# Altium integrated library NL27WZ08USG.IntLib: 1 symbol
Pins are listed as number, name and electrical type; pins without a type are passive.

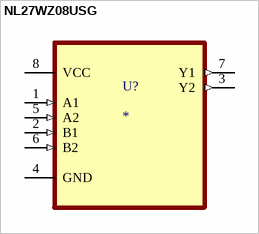
[diagram p0: symbol NL27WZ08USG]

## NL27WZ08USG
designator U?
NL27WZ08USG, Dual 2-Input AND Logic Gate, 1.65 - 5.5 V, 8-Pin US | ON Semiconductor NL27WZ08USG; SnapEDA_Link: https://www.snapeda.com/parts/NL27WZ08USG/Onsemi/view-part/?ref=snap; Package: US-8 ON Semiconductor; Value: *; MF: ON Semiconductor; MP: NL27WZ08USG; Check_prices: https://www.snapeda.com/parts/NL27WZ08USG/Onsemi/view-part/?ref=eda
footprint SOP50P310X90-8N
pins: 1 A1 (in), 2 B1 (in), 3 Y2 (out), 4 GND, 5 A2 (in), 6 B2 (in), 7 Y1 (out), 8 VCC (power)